# Altium schematic symbol library SM04B-ULHK-1TA1-ETB_HF_.SchLib: 1 symbol
Pins are listed as number, name and electrical type; pins without a type are passive.

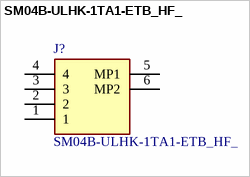
[diagram p0: symbol SM04B-ULHK-1TA1-ETB_HF_]

## SM04B-ULHK-1TA1-ETB_HF_
designator J?
Automotive Connectors 4P ULH Series 0.50 SMT Side Entry Header Key 1 Tin Black; Manufacturer_Name: JST (JAPAN SOLDERLESS TERMINALS); Manufacturer_Part_Number: SM04B-ULHK-1TA1-ETB(HF); Geometry.Height: 3.5mm; Mouser Part Number: 306-SM4BULH1TA1ETBHF; Mouser Price/Stock: https://www.mouser.co.uk/ProductDetail/JST-Automotive/SM04B-ULHK-1TA1-ETBHF?qs=T%252BzbugeAwjhMN2sH8j2Cng%3D%3D; Datasheet Link: https://www.jst-mfg.com/product/pdf/eng/eULH.pdf?65dd9a2fd1056
footprint SM04BULHK1TA1ETBHF
pins: 1, 2, 3, 4, 5 MP1, 6 MP2